# Altium schematic symbol library user.SchLib: 1 symbol
Pins are listed as number, name and electrical type; pins without a type are passive.

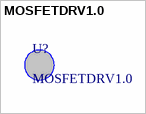
[diagram p0: symbol MOSFETDRV1.0]

## MOSFETDRV1.0
designator U?
WipowerOne Mosfet Driver
footprint MosfetDriver1.0 (WipowerOne Mosfet Driver)